# Altium schematic symbol library 532610871.Schlib: 1 symbol
Pins are listed as number, name and electrical type; pins without a type are passive.

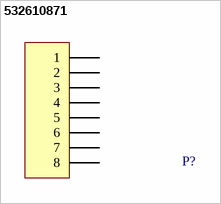
[diagram p0: symbol 532610871]

## 532610871
designator P?  (value not drawn)
CONN SM PICOBLADE 6POS
pins: 1, 2, 3, 4, 5, 6, 7, 8